# EAGLE library part PINHD-2X20 (library Raspberry Pi Headers)
PIN HEADER
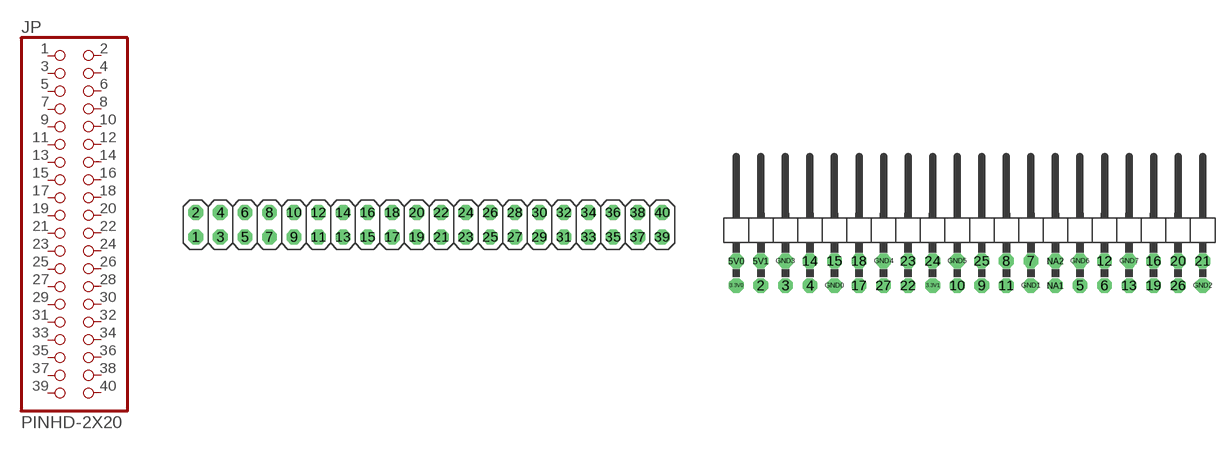
[diagram p13: symbol with the pads of 2X20; footprints 2X20, 2X20/90]

Designator prefix JP

## PINHD-2X20  [2X20]
1  3.3V0  pas
2  5V0  pas
3  2  pas
4  5V1  pas
5  3  pas
6  GND4  pas
7  4  pas
8  14  pas
9  GND0  pas
10  15  pas
11  17  pas
12  18  pas
13  27  pas
14  GND5  pas
15  22  pas
16  23  pas
17  3.3V1  pas
18  24  pas
19  10  pas
20  GND6  pas
21  9  pas
22  25  pas
23  11  pas
24  8  pas
25  GND1  pas
26  7  pas
27  ---------------  pas
28  ---  pas
29  5  pas
30  GND7  pas
31  6  pas
32  12  pas
33  13  pas
34  GND8  pas
35  19  pas
36  16  pas
37  26  pas
38  20  pas
39  GND3  pas
40  21  pas

## PINHD-2X20/90  [2X20/90]
2  2  pas
3  3  pas
3.3V0  3.3V0  pas
3.3V1  3.3V1  pas
4  4  pas
5  5  pas
5V0  5V0  pas
5V1  5V1  pas
6  6  pas
7  7  pas
8  8  pas
9  9  pas
10  10  pas
11  11  pas
12  12  pas
13  13  pas
14  14  pas
15  15  pas
16  16  pas
17  17  pas
18  18  pas
19  19  pas
20  20  pas
21  21  pas
22  22  pas
23  23  pas
24  24  pas
25  25  pas
26  26  pas
27  27  pas
GND0  GND0  pas
GND1  GND1  pas
GND2  GND3  pas
GND3  GND4  pas
GND4  GND5  pas
GND5  GND6  pas
GND6  GND7  pas
GND7  GND8  pas
NA1  ---------------  pas
NA2  ---  pas

## Footprint 2X20 (pad centres in mm)
PIN HEADER
drill 1.016 octagon: 1 -24.13,-1.27; 2 -24.13,1.27; 3 -21.59,-1.27; 4 -21.59,1.27; 5 -19.05,-1.27; 6 -19.05,1.27; 7 -16.51,-1.27; 8 -16.51,1.27; 9 -13.97,-1.27; 10 -13.97,1.27; 11 -11.43,-1.27; 12 -11.43,1.27; 13 -8.89,-1.27; 14 -8.89,1.27; 15 -6.35,-1.27; 16 -6.35,1.27; 17 -3.81,-1.27; 18 -3.81,1.27; 19 -1.27,-1.27; 20 -1.27,1.27; 21 1.27,-1.27; 22 1.27,1.27; 23 3.81,-1.27; 24 3.81,1.27; 25 6.35,-1.27; 26 6.35,1.27; 27 8.89,-1.27; 28 8.89,1.27; 29 11.43,-1.27; 30 11.43,1.27; 31 13.97,-1.27; 32 13.97,1.27; 33 16.51,-1.27; 34 16.51,1.27; 35 19.05,-1.27; 36 19.05,1.27; 37 21.59,-1.27; 38 21.59,1.27; 39 24.13,-1.27; 40 24.13,1.27

## Footprint 2X20/90 (pad centres in mm)
PIN HEADER
drill 1.016 octagon: 2 -21.59,-6.35; 3 -19.05,-6.35; 3.3V0 -24.13,-6.35; 3.3V1 -3.81,-6.35; 4 -16.51,-6.35; 5 11.43,-6.35; 5V0 -24.13,-3.81; 5V1 -21.59,-3.81; 6 13.97,-6.35; 7 6.35,-3.81; 8 3.81,-3.81; 9 1.27,-6.35; 10 -1.27,-6.35; 11 3.81,-6.35; 12 13.97,-3.81; 13 16.51,-6.35; 14 -16.51,-3.81; 15 -13.97,-3.81; 16 19.05,-3.81; 17 -11.43,-6.35; 18 -11.43,-3.81; 19 19.05,-6.35; 20 21.59,-3.81; 21 24.13,-3.81; 22 -6.35,-6.35; 23 -6.35,-3.81; 24 -3.81,-3.81; 25 1.27,-3.81; 26 21.59,-6.35; 27 -8.89,-6.35; GND0 -13.97,-6.35; GND1 6.35,-6.35; GND2 24.13,-6.35; GND3 -19.05,-3.81; GND4 -8.89,-3.81; GND5 -1.27,-3.81; GND6 11.43,-3.81; GND7 16.51,-3.81; NA1 8.89,-6.35; NA2 8.89,-3.81